# Altium schematic symbol library Buttons.SchLib: 2 symbols
Pins are listed as number, name and electrical type; pins without a type are passive.

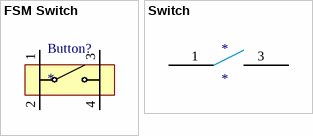
[diagram p0: symbols FSM Switch to Switch]

## FSM Switch
designator Button?
FSM 6mm Series Switch; Supplier Part #: 450-1650-ND; Supplier: DigiKey
footprint FSM4JH
pins: 1, 2, 3, 4

## Switch
designator *
Supplier Part Number: GS02MCBE; Supplier: Digi-Key
footprint GS02MCBE
pins: 1, 3